# Altium schematic symbol library SCH - BJT - ONSEMI NPN PNP MBT3946DW1T1G.SchLib: 1 symbol
Pins are listed as number, name and electrical type; pins without a type are passive.

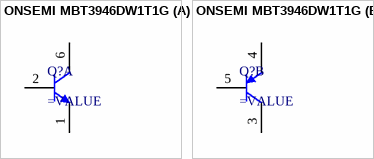
[diagram p0: symbol ONSEMI MBT3946DW1T1G]

## ONSEMI MBT3946DW1T1G
designator Q?
part A pins: 1 E, 2 B, 6 C
part B pins: 3 E, 4 C, 5 B